# Altium footprint library 11pin.PcbLib: 1 footprints
Each footprint in its own frame and in the unit in brackets; x right, y up, seen from the top. Pads: shape width x height; smd on the part's side, far side on the other; paste and mask are expansions set on the pad; w line width, h text height; cw(c..) or ccw(c..) is an arc to the next point about the centre after c.
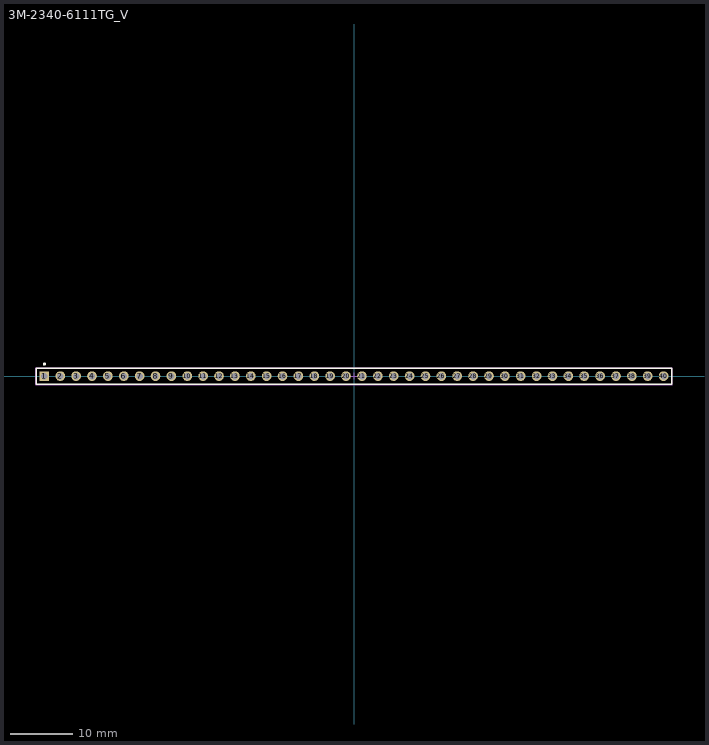
[diagram p0: the footprint, top view; thin cyan lines are the x and y axes]

## 3M-2340-6111TG_V [mm] "THD, 40-Leads, Body 101.6x2.54mm, Pitch 2.54mm"
height 8.636
pads (40):
  rect 1.55x1.55 hole 1.02: 1(-49.53,0)
  round 1.55 hole 1.02: 2(-46.99,0) 3(-44.45,0) 4(-41.91,0) 5(-39.37,0) 6(-36.83,0) 7(-34.29,0) 8(-31.75,0) 9(-29.21,0) 10(-26.67,0) 11(-24.13,0) 12(-21.59,0) 13(-19.05,0) 14(-16.51,0) 15(-13.97,0) 16(-11.43,0) 17(-8.89,0) 18(-6.35,0) 19(-3.81,0) 20(-1.27,0) 21(1.27,0) 22(3.81,0) 23(6.35,0) 24(8.89,0) 25(11.43,0) 26(13.97,0) 27(16.51,0) 28(19.05,0) 29(21.59,0) 30(24.13,0) 31(26.67,0) 32(29.21,0) 33(31.75,0) 34(34.29,0) 35(36.83,0) 36(39.37,0) 37(41.91,0) 38(44.45,0) 39(46.99,0) 40(49.53,0)
Top Overlay:
  circle w0.25: c-49.53,1.92 r0.125
  lines w0.2: -50.8,-1.27 -50.8,1.27 50.8,1.27 50.8,-1.27 -50.8,-1.27
Mechanical 13:
  lines w0.1: -50.8,-1.27 -50.8,1.27 50.8,1.27 50.8,-1.27 -50.8,-1.27
Mechanical 15:
  lines w0.05: -50.9,-1.37 -50.9,1.37 50.9,1.37 50.9,-1.37 -50.9,-1.37
  lines w0.1: -0.5,0 0.5,0 ; 0,-0.5 0,0.5
3D body: height 8.64, standoff -3.05, extent -1.59,-0.32 -0.95,0.32
3D body: height 8.64, standoff -3.05, extent -49.85,-0.32 -49.21,0.32
3D body: height 8.64, standoff -3.05, extent -47.31,-0.32 -46.67,0.32
3D body: height 8.64, standoff -3.05, extent -44.77,-0.32 -44.13,0.32
3D body: height 8.64, standoff -3.05, extent -42.23,-0.32 -41.59,0.32
3D body: height 8.64, standoff -3.05, extent -39.69,-0.32 -39.05,0.32
3D body: height 8.64, standoff -3.05, extent -37.15,-0.32 -36.51,0.32
3D body: height 8.64, standoff -3.05, extent -34.61,-0.32 -33.97,0.32
3D body: height 8.64, standoff -3.05, extent -32.07,-0.32 -31.43,0.32
3D body: height 8.64, standoff -3.05, extent -29.53,-0.32 -28.89,0.32
3D body: height 8.64, standoff -3.05, extent -26.99,-0.32 -26.35,0.32
3D body: height 8.64, standoff -3.05, extent -24.45,-0.32 -23.81,0.32
3D body: height 8.64, standoff -3.05, extent -21.91,-0.32 -21.27,0.32
3D body: height 8.64, standoff -3.05, extent -19.37,-0.32 -18.73,0.32
3D body: height 8.64, standoff -3.05, extent -16.83,-0.32 -16.19,0.32
3D body: height 8.64, standoff -3.05, extent -14.29,-0.32 -13.65,0.32
3D body: height 8.64, standoff -3.05, extent -11.75,-0.32 -11.11,0.32
3D body: height 8.64, standoff -3.05, extent -9.21,-0.32 -8.57,0.32
3D body: height 8.64, standoff -3.05, extent -6.67,-0.32 -6.03,0.32
3D body: height 8.64, standoff -3.05, extent -4.13,-0.32 -3.49,0.32
3D body: height 8.64, standoff -3.05, extent 0.95,-0.32 1.59,0.32
3D body: height 8.64, standoff -3.05, extent 3.49,-0.32 4.13,0.32
3D body: height 8.64, standoff -3.05, extent 6.03,-0.32 6.67,0.32
3D body: height 8.64, standoff -3.05, extent 8.57,-0.32 9.21,0.32
3D body: height 8.64, standoff -3.05, extent 11.11,-0.32 11.75,0.32
3D body: height 8.64, standoff -3.05, extent 13.65,-0.32 14.29,0.32
3D body: height 8.64, standoff -3.05, extent 18.73,-0.32 19.37,0.32
3D body: height 8.64, standoff -3.05, extent 16.19,-0.32 16.83,0.32
3D body: height 8.64, standoff -3.05, extent 21.27,-0.32 21.91,0.32
3D body: height 8.64, standoff -3.05, extent 23.81,-0.32 24.45,0.32
3D body: height 8.64, standoff -3.05, extent 26.35,-0.32 26.99,0.32
3D body: height 8.64, standoff -3.05, extent 28.89,-0.32 29.53,0.32
3D body: height 8.64, standoff -3.05, extent 31.43,-0.32 32.07,0.32
3D body: height 8.64, standoff -3.05, extent 33.97,-0.32 34.61,0.32
3D body: height 8.64, standoff -3.05, extent 36.51,-0.32 37.15,0.32
3D body: height 8.64, standoff -3.05, extent 39.05,-0.32 39.69,0.32
3D body: height 8.64, standoff -3.05, extent 41.59,-0.32 42.23,0.32
3D body: height 8.64, standoff -3.05, extent 44.13,-0.32 44.77,0.32
3D body: height 8.64, standoff -3.05, extent 46.67,-0.32 47.31,0.32
3D body: height 8.64, standoff -3.05, extent 49.21,-0.32 49.85,0.32
3D body: height 2.54, standoff 0, extent -50.8,-1.27 50.8,1.27